# Altium schematic symbol library DS90LV047.SchLib: 1 symbol
Pins are listed as number, name and electrical type; pins without a type are passive.

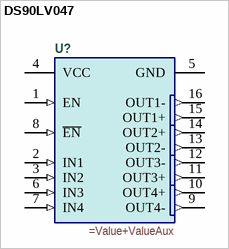
[diagram p0: symbol DS90LV047]

## DS90LV047
designator U?
=Description
pins: 1 EN (in), 2 IN1 (in), 3 IN2 (in), 4 VCC (power), 5 GND (power), 6 IN3 (in), 7 IN4 (in), 8 ~{EN} (in), 9 OUT4- (out), 10 OUT4+ (out), 11 OUT3+ (out), 12 OUT3- (out), 13 OUT2- (out), 14 OUT2+ (out), 15 OUT1+ (out), 16 OUT1- (out)